# Altium footprint library ICs.PcbLib: 38 footprints (part 3 of 3)
Each footprint in its own frame and in the unit in brackets; x right, y up, seen from the top. Pads: shape width x height; smd on the part's side, far side on the other; paste and mask are expansions set on the pad; w line width, h text height; cw(c..) or ccw(c..) is an arc to the next point about the centre after c.
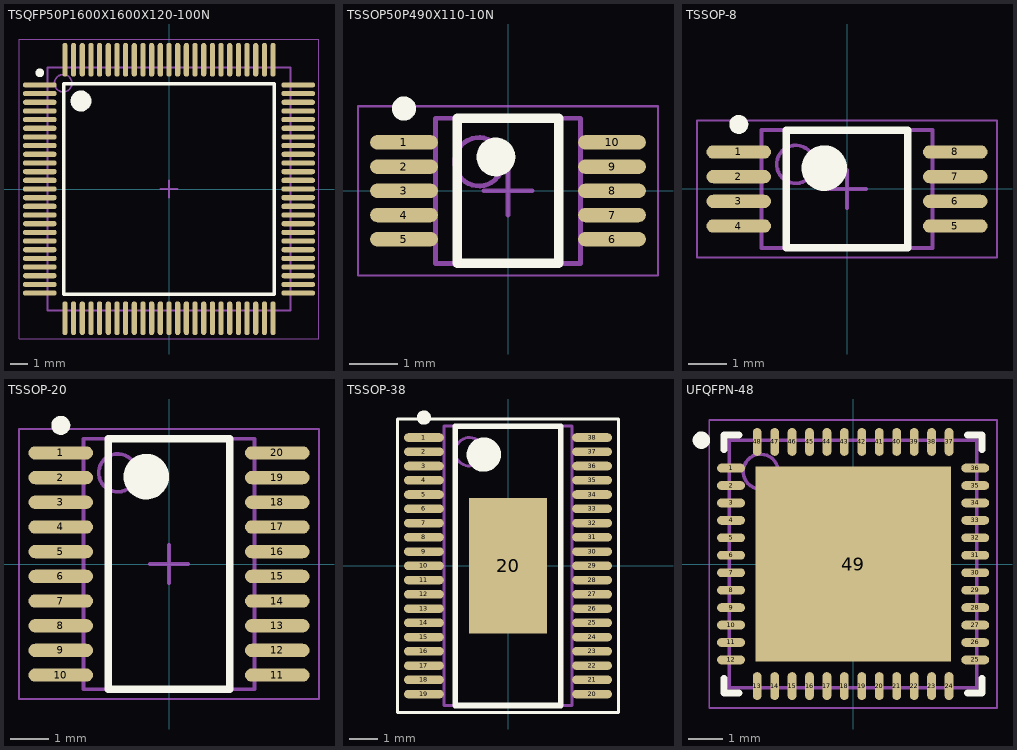
[diagram p2: the footprints below, top view; thin cyan lines are the x and y axes]

## TSQFP50P1600X1600X120-100N [mm] "TSQFP, 100-Leads, Body 14,00x14,00mm, Pitch 0,50mm, IPC Medium Density"
height 1.2
pads (100):
  oval 1.95x0.3 smd: 1(-7.45,6) 2(-7.45,5.5) 3(-7.45,5) 4(-7.45,4.5) 5(-7.45,4) 6(-7.45,3.5) 7(-7.45,3) 8(-7.45,2.5) 9(-7.45,2) 10(-7.45,1.5) 11(-7.45,1) 12(-7.45,0.5) 13(-7.45,0) 14(-7.45,-0.5) 15(-7.45,-1) 16(-7.45,-1.5) 17(-7.45,-2) 18(-7.45,-2.5) 19(-7.45,-3) 20(-7.45,-3.5) 21(-7.45,-4) 22(-7.45,-4.5) 23(-7.45,-5) 24(-7.45,-5.5) 25(-7.45,-6) 51(7.45,-6) 52(7.45,-5.5) 53(7.45,-5) 54(7.45,-4.5) 55(7.45,-4) 56(7.45,-3.5) 57(7.45,-3) 58(7.45,-2.5) 59(7.45,-2) 60(7.45,-1.5) 61(7.45,-1) 62(7.45,-0.5) 63(7.45,0) 64(7.45,0.5) 65(7.45,1) 66(7.45,1.5) 67(7.45,2) 68(7.45,2.5) 69(7.45,3) 70(7.45,3.5) 71(7.45,4) 72(7.45,4.5) 73(7.45,5) 74(7.45,5.5) 75(7.45,6)
  oval 0.3x1.95 smd: 26(-6,-7.45) 27(-5.5,-7.45) 28(-5,-7.45) 29(-4.5,-7.45) 30(-4,-7.45) 31(-3.5,-7.45) 32(-3,-7.45) 33(-2.5,-7.45) 34(-2,-7.45) 35(-1.5,-7.45) 36(-1,-7.45) 37(-0.5,-7.45) 38(0,-7.45) 39(0.5,-7.45) 40(1,-7.45) 41(1.5,-7.45) 42(2,-7.45) 43(2.5,-7.45) 44(3,-7.45) 45(3.5,-7.45) 46(4,-7.45) 47(4.5,-7.45) 48(5,-7.45) 49(5.5,-7.45) 50(6,-7.45) 76(6,7.45) 77(5.5,7.45) 78(5,7.45) 79(4.5,7.45) 80(4,7.45) 81(3.5,7.45) 82(3,7.45) 83(2.5,7.45) 84(2,7.45) 85(1.5,7.45) 86(1,7.45) 87(0.5,7.45) 88(0,7.45) 89(-0.5,7.45) 90(-1,7.45) 91(-1.5,7.45) 92(-2,7.45) 93(-2.5,7.45) 94(-3,7.45) 95(-3.5,7.45) 96(-4,7.45) 97(-4.5,7.45) 98(-5,7.45) 99(-5.5,7.45) 100(-6,7.45)
Top Overlay:
  circle w0.6: c-5.075,5.075 r0.3
  circle w0.25: c-7.45,6.7 r0.125
  lines w0.2: -6.075,-6.075 6.075,-6.075 6.075,6.075 -6.075,6.075 -6.075,-6.075
Mechanical 13:
  circle w0.1: c-6.1,6.1 r0.5
  lines w0.1: -7,-7 7,-7 7,7 -7,7 -7,-7
Mechanical 15:
  lines w0.05: -8.65,-8.65 8.65,-8.65 8.65,8.65 -8.65,8.65 -8.65,-8.65
  lines w0.1: -0.5,0 0.5,0 ; 0,-0.5 0,0.5
3D body: height 1.2, standoff 0.05, extent -7,-7 7,7

## TSSOP50P490X110-10N [mm] "TSSOP, 10-Leads, Body 3,00x3,00mm, Pitch 0,50mm, IPC Medium Density"
height 1.1
pads (10):
  oval 1.4x0.3 smd: 1(-2.15,1) 2(-2.15,0.5) 3(-2.15,0) 4(-2.15,-0.5) 5(-2.15,-1) 6(2.15,-1) 7(2.15,-0.5) 8(2.15,0) 9(2.15,0.5) 10(2.15,1)
Top Overlay:
  circle w0.25: c-2.15,1.7 r0.125
  circle w0.4: c-0.25,0.7 r0.2
  lines w0.2: -1.05,-1.5 -1.05,1.5 1.05,1.5 1.05,-1.5 -1.05,-1.5
Mechanical 13:
  circle w0.1: c-0.6,0.6 r0.5
  lines w0.1: -1.5,-1.5 -1.5,1.5 1.5,1.5 1.5,-1.5 -1.5,-1.5
Mechanical 15:
  lines w0.05: -3.1,-1.75 -3.1,1.75 3.1,1.75 3.1,-1.75 -3.1,-1.75
  lines w0.1: -0.5,0 0.5,0 ; 0,-0.5 0,0.5
3D body: height 1.1, standoff 0.1, extent -1.5,-1.5 1.5,1.5

## TSSOP-8 [mm] "TSOP, 8-Leads, Body 3,00x4,40mm, Pitch 0,65mm, IPC Medium Density"
height 1.2
pads (8):
  oval 1.7x0.35 smd: 1(-2.85,0.975) 2(-2.85,0.325) 3(-2.85,-0.325) 4(-2.85,-0.975) 5(2.85,-0.975) 6(2.85,-0.325) 7(2.85,0.325) 8(2.85,0.975)
Top Overlay:
  circle w0.6: c-0.6,0.55 r0.3
  circle w0.25: c-2.85,1.7 r0.125
  lines w0.2: -1.6,-1.55 1.6,-1.55 1.6,1.55 -1.6,1.55 -1.6,-1.55
Mechanical 13:
  circle w0.1: c-1.35,0.65 r0.5
  lines w0.1: -2.25,-1.55 2.25,-1.55 2.25,1.55 -2.25,1.55 -2.25,-1.55
Mechanical 15:
  lines w0.05: -3.95,-1.8 3.95,-1.8 3.95,1.8 -3.95,1.8 -3.95,-1.8
  lines w0.1: -0.5,0 0.5,0 ; 0,-0.5 0,0.5
3D body "User Library-TSSOP8.step": height 1.25, standoff 0.05, extent -3.2,-1.55 3.2,1.55

## TSSOP-20 [mm] "TSOP, 20-Leads, Body 6,50x4,40mm, Pitch 0,65mm, IPC Medium Density"
height 1.2
pads (20):
  oval 1.7x0.35 smd: 1(-2.85,2.925) 2(-2.85,2.275) 3(-2.85,1.625) 4(-2.85,0.975) 5(-2.85,0.325) 6(-2.85,-0.325) 7(-2.85,-0.975) 8(-2.85,-1.625) 9(-2.85,-2.275) 10(-2.85,-2.925) 11(2.85,-2.925) 12(2.85,-2.275) 13(2.85,-1.625) 14(2.85,-0.975) 15(2.85,-0.325) 16(2.85,0.325) 17(2.85,0.975) 18(2.85,1.625) 19(2.85,2.275) 20(2.85,2.925)
Top Overlay:
  circle w0.6: c-0.6,2.3 r0.3
  circle w0.25: c-2.85,3.65 r0.125
  lines w0.2: -1.6,-3.3 1.6,-3.3 1.6,3.3 -1.6,3.3 -1.6,-3.3
Mechanical 13:
  circle w0.1: c-1.35,2.4 r0.5
  lines w0.1: -2.25,-3.3 2.25,-3.3 2.25,3.3 -2.25,3.3 -2.25,-3.3
Mechanical 15:
  lines w0.05: -3.95,-3.55 3.95,-3.55 3.95,3.55 -3.95,3.55 -3.95,-3.55
  lines w0.1: -0.5,0 0.5,0 ; 0,-0.5 0,0.5
3D body "User Library-tssop-20-1.step": height 1.2, standoff 0, extent -3.3,-3.3 3.3,3.3

## TSSOP-38 [mm] "TSSOP, 38-Leads, Body 9,70x4,40mm, Pitch 0,50mm, Thermal Pad 4,75x2,74mm, IPC Medium Density"
height 1.2
pads (39):
  oval 1.4x0.3 smd mask+0.05: 1(-2.95,4.5) 2(-2.95,4) 3(-2.95,3.5) 4(-2.95,3) 5(-2.95,2.5) 6(-2.95,2) 7(-2.95,1.5) 8(-2.95,1) 9(-2.95,0.5) 10(-2.95,0) 11(-2.95,-0.5) 12(-2.95,-1) 13(-2.95,-1.5) 14(-2.95,-2) 15(-2.95,-2.5) 16(-2.95,-3) 17(-2.95,-3.5) 18(-2.95,-4) 19(-2.95,-4.5) 20(2.95,-4.5) 21(2.95,-4) 22(2.95,-3.5) 23(2.95,-3) 24(2.95,-2.5) 25(2.95,-2) 26(2.95,-1.5) 27(2.95,-1) 28(2.95,-0.5) 29(2.95,0) 30(2.95,0.5) 31(2.95,1) 32(2.95,1.5) 33(2.95,2) 34(2.95,2.5) 35(2.95,3) 36(2.95,3.5) 37(2.95,4) 38(2.95,4.5)
  rect 2.74x4.75 smd mask+0.05: 20(0,0)
Top Overlay:
  circle w0.25: c-2.95,5.2 r0.125
  circle w0.6: c-0.85,3.9 r0.3
  lines w0.1: -3.875,-5.15 3.875,-5.15 3.875,5.15 -3.875,5.15 -3.875,-5.15
  lines w0.2: -1.85,-4.9 -1.85,4.9 1.85,4.9 1.85,-4.9 -1.85,-4.9
Mechanical 13:
  circle w0.1: c-1.35,4 r0.5
  lines w0.1: -2.25,-4.9 -2.25,4.9 2.25,4.9 2.25,-4.9 -2.25,-4.9
Mechanical 15:
  lines w0.05: -3.875,-5.15 -3.875,5.15 3.875,5.15 3.875,-5.15 -3.875,-5.15
  lines w0.1: -0.5,0 0.5,0 ; 0,-0.5 0,0.5
3D body "TSSOP50P640X120_HS-39N.step": height 1.2, standoff 0, extent -3.2,-4.9 3.2,4.9

## UFQFPN-48 [mm] "QFN, 48-Leads, Body 7,00x7,00mm, Pitch 0,50mm, Thermal Pad 5,60x5,60mm, IPC Medium Density"
height 0.6
pads (49):
  oval 0.8x0.25 smd: 1(-3.5,2.75) 2(-3.5,2.25) 3(-3.5,1.75) 4(-3.5,1.25) 5(-3.5,0.75) 6(-3.5,0.25) 7(-3.5,-0.25) 8(-3.5,-0.75) 9(-3.5,-1.25) 10(-3.5,-1.75) 11(-3.5,-2.25) 12(-3.5,-2.75) 25(3.5,-2.75) 26(3.5,-2.25) 27(3.5,-1.75) 28(3.5,-1.25) 29(3.5,-0.75) 30(3.5,-0.25) 31(3.5,0.25) 32(3.5,0.75) 33(3.5,1.25) 34(3.5,1.75) 35(3.5,2.25) 36(3.5,2.75)
  oval 0.25x0.8 smd: 13(-2.75,-3.5) 14(-2.25,-3.5) 15(-1.75,-3.5) 16(-1.25,-3.5) 17(-0.75,-3.5) 18(-0.25,-3.5) 19(0.25,-3.5) 20(0.75,-3.5) 21(1.25,-3.5) 22(1.75,-3.5) 23(2.25,-3.5) 24(2.75,-3.5) 37(2.75,3.5) 38(2.25,3.5) 39(1.75,3.5) 40(1.25,3.5) 41(0.75,3.5) 42(0.25,3.5) 43(-0.25,3.5) 44(-0.75,3.5) 45(-1.25,3.5) 46(-1.75,3.5) 47(-2.25,3.5) 48(-2.75,3.5)
  rect 5.6x5.6 smd: 49(0,0)
Top Overlay:
  circle w0.25: c-4.35,3.55 r0.125
  lines w0.2: -3.7,-3.275 -3.7,-3.7 -3.275,-3.7 ; -3.7,3.275 -3.7,3.7 -3.275,3.7 ; 3.275,-3.7 3.7,-3.7 3.7,-3.275 ; 3.275,3.7 3.7,3.7 3.7,3.275
Mechanical 13:
  circle w0.1: c-2.65,2.65 r0.5
  lines w0.1: -3.55,-3.55 -3.55,3.55 3.55,3.55 3.55,-3.55 -3.55,-3.55
Mechanical 15:
  lines w0.05: -4.125,-4.125 -4.125,4.125 4.125,4.125 4.125,-4.125 -4.125,-4.125
3D body "User Library-QFN 48.step": height 0.85, standoff -0.05, extent -4,-4.002 4.002,4